# EAGLE library part 74HC589A_DT (library tecsmith_keyboards)
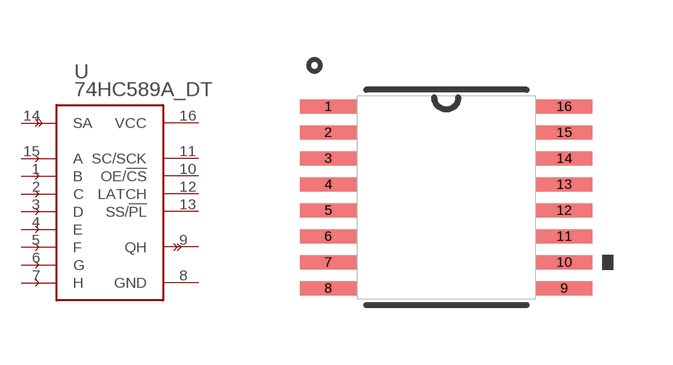
[diagram p2: symbol with the pads of TSSOP16; footprint TSSOP16]

Designator prefix -

## 74HC589A_DT  [TSSOP16]
1  B
2  C
3  D
4  E
5  F
6  G
7  H
8  GND
9  QH
10  OE/!CS
11  SC/SCK
12  LATCH
13  SS/!PL
14  SA
15  A
16  VCC

## Footprint TSSOP16 (pad centres in mm)
smd 1.408 x 0.356: 1 -2.952,2.275; 2 -2.952,1.625; 3 -2.952,0.975; 4 -2.952,0.325; 5 -2.952,-0.325; 6 -2.952,-0.975; 7 -2.952,-1.625; 8 -2.952,-2.275; 9 2.952,-2.275; 10 2.952,-1.625; 11 2.952,-0.975; 12 2.952,-0.325; 13 2.952,0.325; 14 2.952,0.975; 15 2.952,1.625; 16 2.952,2.275